# Altium footprint library Latrobe.PCBLIB: 50 footprints (part 4 of 4)
Each footprint in its own frame and in the unit in brackets; x right, y up, seen from the top. Pads: shape width x height; smd on the part's side, far side on the other; paste and mask are expansions set on the pad; w line width, h text height; cw(c..) or ccw(c..) is an arc to the next point about the centre after c.
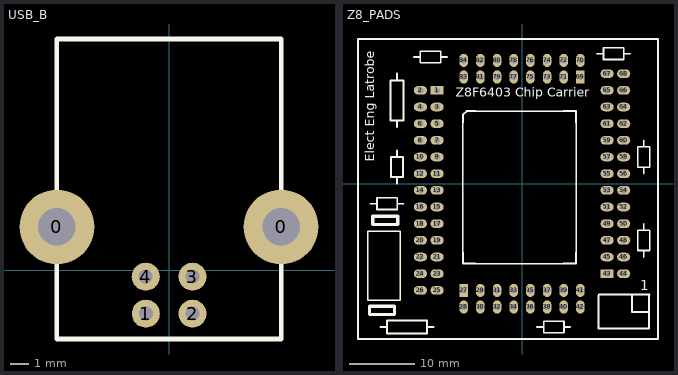
[diagram p3: the footprints below, top view; thin cyan lines are the x and y axes]

## USB_B [mil]
pads (6):
  round 160 hole 80: 0(-240,92.91) 0(240,92.91)
  round 60 hole 30: 1(-49.61,-92.91) 2(50.39,-92.91) 3(50.2,-13.58) 4(-49.8,-13.58)
TopOverlay:
  lines w10: -240,12.91 -240,-147.09 240,-147.09 240,12.91 ; -240,172.91 -240,495.28 240,495.28 240,172.91

## Z8_PADS [mm]
pads (84):
  rect 2x1.3 hole 0.9: 1(-12.954,14.224) 43(12.954,-13.716)
  oval 2x1.3 hole 0.9: 2(-15.494,14.224) 3(-12.954,11.684) 4(-15.494,11.684) 5(-12.954,9.144) 6(-15.494,9.144) 7(-12.954,6.604) 8(-15.494,6.604) 9(-12.954,4.064) 10(-15.494,4.064) 11(-12.954,1.524) 12(-15.494,1.524) 13(-12.954,-1.016) 14(-15.494,-1.016) 15(-12.954,-3.556) 16(-15.494,-3.556) 17(-12.954,-6.096) 18(-15.494,-6.096) 19(-12.954,-8.636) 20(-15.494,-8.636) 21(-12.954,-11.176) 22(-15.494,-11.176) 23(-12.954,-13.716) 24(-15.494,-13.716) 25(-12.954,-16.256) 26(-15.494,-16.256) 44(15.494,-13.716) 45(12.954,-11.176) 46(15.494,-11.176) 47(12.954,-8.636) 48(15.494,-8.636) 49(12.954,-6.096) 50(15.494,-6.096) 51(12.954,-3.556) 52(15.494,-3.556) 53(12.954,-1.016) 54(15.494,-1.016) 55(12.954,1.524) 56(15.494,1.524) 57(12.954,4.064) 58(15.494,4.064) 59(12.954,6.604) 60(15.494,6.604) 61(12.954,9.144) 62(15.494,9.144) 63(12.954,11.684) 64(15.494,11.684) 65(12.954,14.224) 66(15.494,14.224) 67(12.954,16.764) 68(15.494,16.764)
  rect 1.3x2 hole 0.9: 27(-8.89,-16.256) 69(8.89,16.256)
  oval 1.3x2 hole 0.9: 28(-8.89,-18.796) 29(-6.35,-16.256) 30(-6.35,-18.796) 31(-3.81,-16.256) 32(-3.81,-18.796) 33(-1.27,-16.256) 34(-1.27,-18.796) 35(1.27,-16.256) 36(1.27,-18.796) 37(3.81,-16.256) 38(3.81,-18.796) 39(6.35,-16.256) 40(6.35,-18.796) 41(8.89,-16.256) 42(8.89,-18.796) 70(8.89,18.796) 71(6.35,16.256) 72(6.35,18.796) 73(3.81,16.256) 74(3.81,18.796) 75(1.27,16.256) 76(1.27,18.796) 77(-1.27,16.256) 78(-1.27,18.796) 79(-3.81,16.256) 80(-3.81,18.796) 81(-6.35,16.256) 82(-6.35,18.796) 83(-8.89,16.256) 84(-8.89,18.796)
TopOverlay:
  lines w0.2: -23.542,-17.78 -23.542,-7.28 -18.542,-7.28 -18.542,-17.78 -23.542,-17.78
  lines w0.254: -23.114,-3.048 -22.114,-3.048 ; -18.914,-3.048 -18.034,-3.048 ; -16.51,19.304 -15.51,19.304 ; -12.31,19.304 -11.43,19.304 ; -9.017,-10.49 -9.017,9.347 ; -7.087,-12.192 6.325,-12.192 ; -7.087,11.049 6.325,11.049 ; 2.286,-21.844 3.286,-21.844 ; 6.486,-21.844 7.366,-21.844 ; 8.255,-10.49 8.255,9.347 ; 11.43,19.812 12.31,19.812 ; 15.51,19.812 16.51,19.812 ; 18.542,-11.176 18.542,-10.176 ; 18.542,-6.976 18.542,-6.096 ; 18.542,1.524 18.542,2.404 ; 18.542,5.604 18.542,6.604 ; -24.998,-23.674 -24.998,22.046 20.722,22.046 20.722,-23.674 -24.998,-23.674 ; -22.114,-3.948 -22.114,-2.148 -19.014,-2.148 -19.014,-3.948 -22.114,-3.948 ; -15.51,18.404 -15.51,20.204 -12.41,20.204 -12.41,18.404 -15.51,18.404 ; 3.286,-22.744 3.286,-20.944 6.386,-20.944 6.386,-22.744 3.286,-22.744 ; 12.41,18.912 15.51,18.912 15.51,20.712 12.41,20.712 12.41,18.912 ; 17.642,-10.176 19.442,-10.176 19.442,-7.076 17.642,-7.076 17.642,-10.176 ; 17.642,2.504 19.442,2.504 19.442,5.604 17.642,5.604 17.642,2.504
  lines w0.305: -21.59,-21.844 -20.574,-21.844 ; -19.05,0 -19.05,1 ; -19.05,4.2 -19.05,5.08 ; -19.05,8.636 -19.05,9.652 ; -19.05,15.748 -19.05,16.764 ; -14.478,-21.844 -13.462,-21.844 ; -9.017,-10.49 -9.017,-12.192 -7.087,-12.192 ; -9.017,9.347 -9.017,10.49 -8.458,11.049 -7.087,11.049 ; 6.325,-12.192 8.255,-12.192 8.255,-10.49 ; 6.325,11.049 8.255,11.049 8.255,9.347 ; 11.684,-17.018 11.684,-22.098 19.32,-22.082 19.32,-17.002 ; 11.76,-16.926 19.396,-16.926 ; 16.78,-17.002 16.78,-19.542 19.32,-19.542 ; -20.574,-22.86 -20.574,-20.828 -14.478,-20.828 -14.478,-22.86 -20.574,-22.86 ; -20.066,9.652 -18.034,9.652 -18.034,15.748 -20.066,15.748 -20.066,9.652 ; -19.95,1 -19.95,4.1 -18.15,4.1 -18.15,1 -19.95,1
  lines w0.508: -23.241,-19.939 -19.431,-19.939 -19.431,-18.669 -23.241,-18.669 -23.241,-19.939 ; -22.733,-6.223 -18.923,-6.223 -18.923,-4.953 -22.733,-4.953 -22.733,-6.223
  text "Z8F6403 Chip Carrier" at -10.109,13.259 h1.4
  text "Elect Eng Latrobe" at -22.53,3.327 h1.4
  text "1" at 17.983,-16.231 h1.52